# Altium footprint library Current Sensor.PcbLib: 17 footprints (part 1 of 2)
Each footprint in its own frame and in the unit in brackets; x right, y up, seen from the top. Pads: shape width x height; smd on the part's side, far side on the other; paste and mask are expansions set on the pad; w line width, h text height; cw(c..) or ccw(c..) is an arc to the next point about the centre after c.
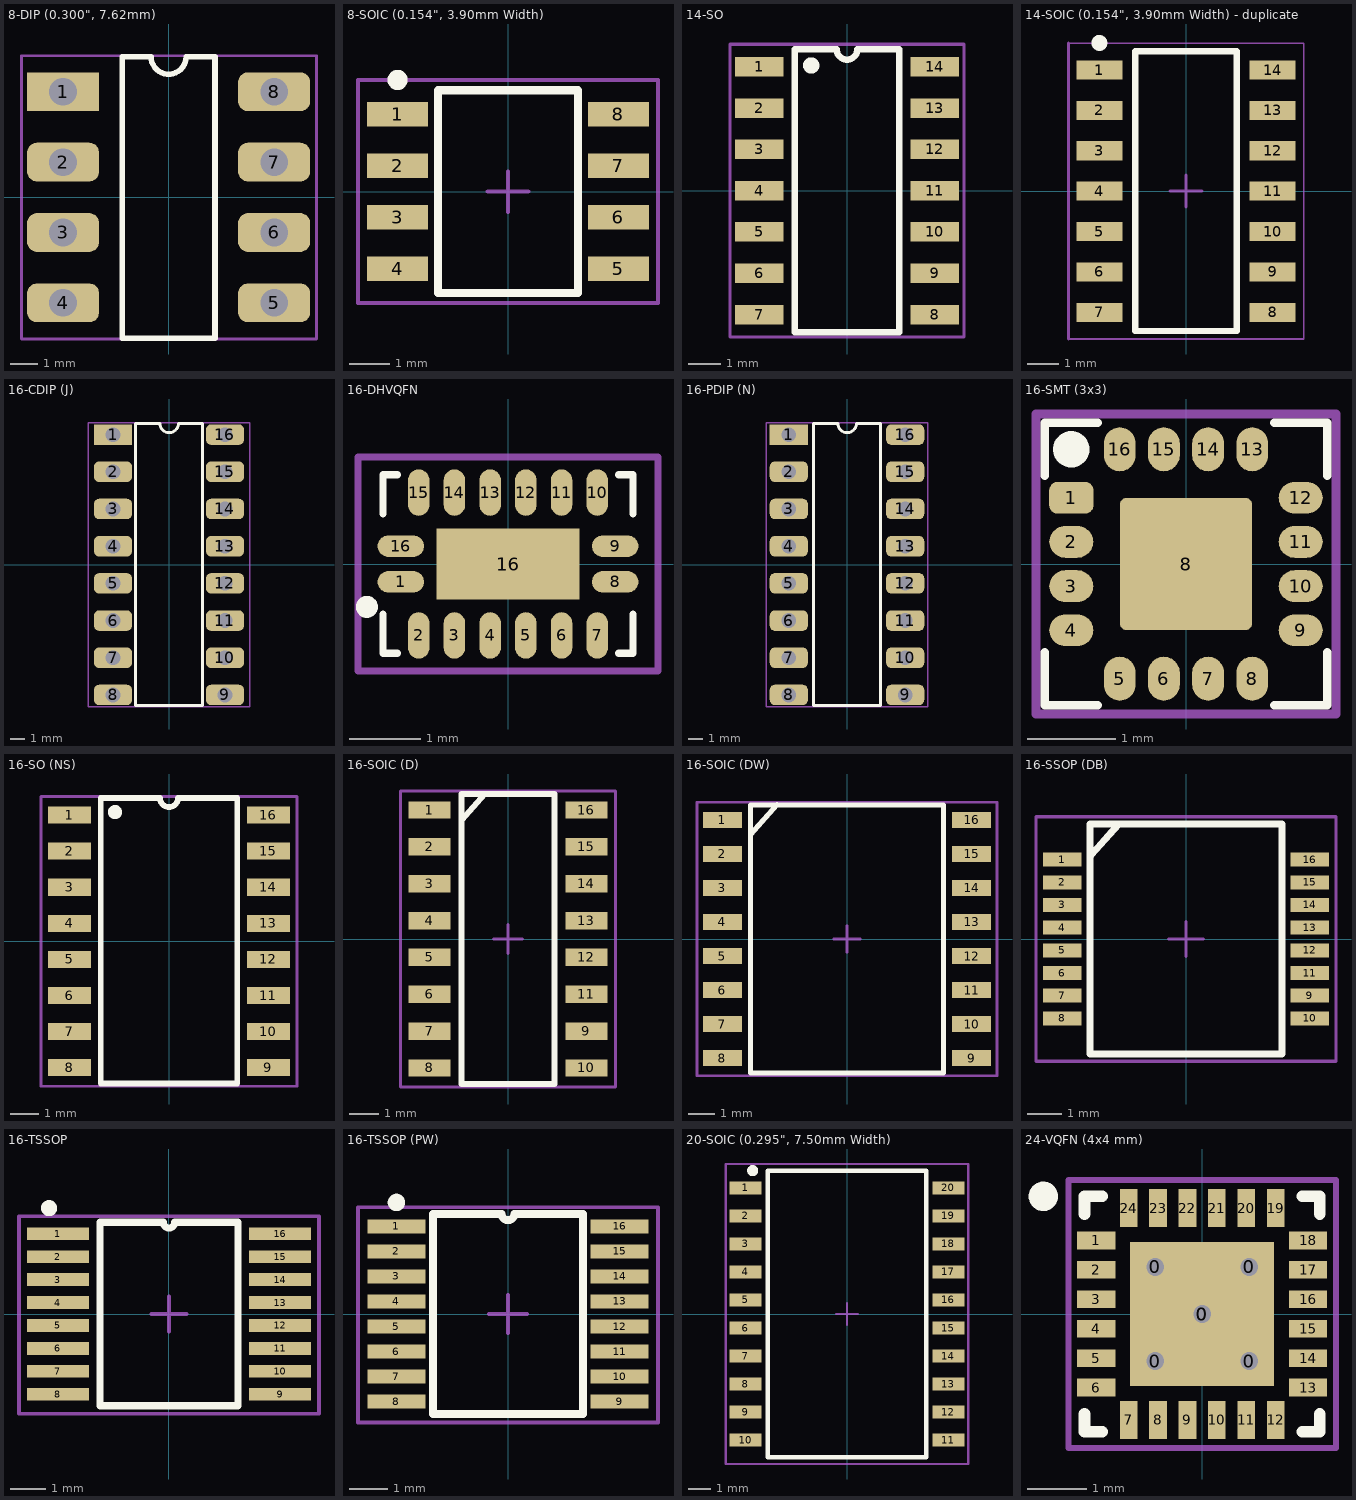
[diagram p0: the footprints below, top view; thin cyan lines are the x and y axes]

## 8-DIP (0.300", 7.62mm) [mm]
pads (8):
  rect 2.6x1.4 hole 1: 1(-3.81,3.81)
  rrect50% 2.6x1.4 hole 1: 2(-3.81,1.27) 3(-3.81,-1.27) 4(-3.81,-3.81) 5(3.81,-3.81) 6(3.81,-1.27) 7(3.81,1.27) 8(3.81,3.81)
Top Overlay:
  lines w0.2: -1.675,-5.08 -1.675,5.08 -0.635,5.08 ccw(c0,5.08) 0.635,5.08 1.675,5.08 1.675,-5.08 -1.675,-5.08
Border:
  lines w0.1: -5.31,-5.115 5.34,-5.115 5.34,5.11 -5.31,5.11 -5.31,-5.115
3D body "User Library-DIP-8P-M01.STEP": height 4.36, standoff -3, extent -3.93,-4.69 3.94,4.71

## 8-SOIC (0.154", 3.90mm Width) [mm] "SOIC, 8-Leads, Body 4,90x3,90mm, Pitch 1,27mm, IPC Medium Density"
height 1.75
pads (8):
  rect 1.5x0.6 smd: 1(-2.725,1.905) 2(-2.725,0.635) 3(-2.725,-0.635) 4(-2.725,-1.905) 5(2.725,-1.905) 6(2.725,-0.635) 7(2.725,0.635) 8(2.725,1.905)
Top Overlay:
  circle w0.25: c-2.725,2.755 r0.125
  lines w0.2: -1.725,-2.5 -1.725,2.5 1.725,2.5 1.725,-2.5 -1.725,-2.5
Border:
  lines w0.1: -0.5,0 0.5,0 ; 0,-0.5 0,0.5 ; -3.7,-2.75 -3.7,2.75 3.7,2.75 3.7,-2.75 -3.7,-2.75
3D body "CircuitWorks-SO-8.STEP": height 1.45, standoff 0, extent -2.9,-2.452 2.878,2.45

## 14-SO [mm]
pads (14):
  rect 1.5x0.6 smd: 1(-2.7,3.81) 2(-2.7,2.54) 3(-2.7,1.27) 4(-2.7,0) 5(-2.7,-1.27) 6(-2.7,-2.54) 7(-2.7,-3.81) 8(2.7,-3.81) 9(2.7,-2.54) 10(2.7,-1.27) 11(2.7,0) 12(2.7,1.27) 13(2.7,2.54) 14(2.7,3.81)
Top Overlay:
  circle w0.25: c-1.1,3.85 r0.125
  lines w0.2: -1.6,-4.345 1.6,-4.345 1.6,4.345 0.318,4.345 cw(c0,4.345) -0.318,4.345 -1.6,4.345 -1.6,-4.345
Border:
  lines w0.1: -3.6,-4.5 -3.6,4.5 -3.5,4.5 3.6,4.5 3.6,-4.5 -3.6,-4.5
3D body "CircuitWorks-SO-14.STEP": height 1.75, standoff 0, extent -3.046,-4.318 3.05,4.318

## 14-SOIC (0.154", 3.90mm Width) - duplicate [mm] "SOIC, 14-Leads, Body 8,65x3,90mm, Pitch 1,27mm, IPC Medium Density"
height 1.75
pads (14):
  rect 1.45x0.6 smd: 1(-2.725,3.81) 2(-2.725,2.54) 3(-2.725,1.27) 4(-2.725,0) 5(-2.725,-1.27) 6(-2.725,-2.54) 7(-2.725,-3.81) 8(2.725,-3.81) 9(2.725,-2.54) 10(2.725,-1.27) 11(2.725,0) 12(2.725,1.27) 13(2.725,2.54) 14(2.725,3.81)
Top Overlay:
  circle w0.25: c-2.725,4.66 r0.125
  lines w0.2: -1.6,-4.4 1.6,-4.4 1.6,4.4 -1.6,4.4 -1.6,-4.4
Border:
  lines w0.05: -3.7,-4.65 3.7,-4.65 3.7,4.65 -3.7,4.65
  lines w0.1: -3.7,-4.65 -3.7,4.65 ; -0.5,0 0.5,0 ; 0,-0.5 0,0.5
3D body "User Library-SOIC-14.STEP": height 1.75, standoff 0, extent -3,-4.375 3,4.375

## 16-CDIP (J) [mm] "J (R-CDIP-T16)"
pads (16):
  rect 2.6x1.4 hole 1: 1(-3.82,8.89)
  rrect50% 2.6x1.4 hole 1: 2(-3.82,6.35) 3(-3.82,3.81) 4(-3.82,1.27) 5(-3.82,-1.27) 6(-3.82,-3.81) 7(-3.82,-6.35) 8(-3.82,-8.89) 9(3.82,-8.89) 10(3.82,-6.35) 11(3.82,-3.81) 12(3.82,-1.27) 13(3.82,1.27) 14(3.82,3.81) 15(3.82,6.35) 16(3.82,8.89)
Top Overlay:
  lines w0.2: -2.3,-9.6 -2.3,9.66 -0.625,9.66 ccw(c0.01,9.66) 0.645,9.66 2.3,9.66 2.3,-9.6 -2.3,-9.6
Border:
  lines w0.1: -5.5,-9.7 5.5,-9.7 5.5,9.7 -5.5,9.7 -5.5,-9.7
3D body "User Library-DIP16.STEP": height 4.57, standoff -3.81, extent -3.91,-9.715 3.91,9.715

## 16-DHVQFN [mm]
pads (17):
  oval 0.65x0.3 smd: 1(-1.5,-0.25) 8(1.5,-0.25) 9(1.5,0.25) 16(-1.5,0.25)
  oval 0.3x0.65 smd: 2(-1.25,-1) 3(-0.75,-1) 4(-0.25,-1) 5(0.25,-1) 6(0.75,-1) 7(1.25,-1) 10(1.25,1) 11(0.75,1) 12(0.25,1) 13(-0.25,1) 14(-0.75,1) 15(-1.25,1)
  rect 2x1 smd: 16(0,0)
Top Overlay:
  circle w0.15: c-1.975,-0.6 r0.079
  lines w0.1: -1.75,-0.7 -1.75,-1.25 -1.55,-1.25 ; -1.75,0.7 -1.75,1.25 -1.55,1.25 ; 1.55,-1.25 1.75,-1.25 1.75,-0.7 ; 1.55,1.25 1.75,1.25 1.75,0.7
Border:
  lines w0.1: -2.1,-1.5 2.1,-1.5 2.1,1.5 -2.1,1.5 -2.1,-1.5
3D body "16-DHVQFN.stp": height 1, standoff 0, extent -1.8,-1.3 1.8,1.3

## 16-PDIP (N) [mm] "N (R-PDIP-T16)"
pads (16):
  rect 2.6x1.4 hole 1: 1(-3.975,8.89)
  rrect50% 2.6x1.4 hole 1: 2(-3.975,6.35) 3(-3.975,3.81) 4(-3.975,1.27) 5(-3.975,-1.27) 6(-3.975,-3.81) 7(-3.975,-6.35) 8(-3.975,-8.89) 9(3.975,-8.89) 10(3.975,-6.35) 11(3.975,-3.81) 12(3.975,-1.27) 13(3.975,1.27) 14(3.975,3.81) 15(3.975,6.35) 16(3.975,8.89)
Top Overlay:
  lines w0.2: -2.3,-9.6 2.3,-9.6 2.3,9.66 0.645,9.66 cw(c0.01,9.66) -0.625,9.66 -2.3,9.66 -2.3,-9.6
Border:
  lines w0.1: -5.5,-9.7 -5.5,9.7 5.5,9.7 5.5,-9.7 -5.5,-9.7
3D body "User Library-DIP16.STEP": height 4.57, standoff -3.81, extent -3.91,-9.715 3.91,9.715

## 16-SMT (3x3) [mm]
pads (17):
  rrect50% 0.5x0.36 smd: 1(-1.3,0.75)
  oval 0.5x0.36 smd: 2(-1.3,0.25) 3(-1.3,-0.25) 4(-1.3,-0.75) 9(1.3,-0.75) 10(1.3,-0.25) 11(1.3,0.25) 12(1.3,0.75)
  oval 0.36x0.5 smd: 5(-0.75,-1.3) 6(-0.25,-1.3) 7(0.25,-1.3) 8(0.75,-1.3) 13(0.75,1.3) 14(0.25,1.3) 15(-0.25,1.3) 16(-0.75,1.3)
  rrect10% 1.5x1.5 smd: 8(0,0)
Top Overlay:
  circle w0.254: c-1.3,1.3 r0.079
  lines w0.1: -1.6,-1 -1.6,-1.6 -1,-1.6 ; -1.6,1 -1.6,1.6 -1,1.6 ; 1,-1.6 1.6,-1.6 1.6,-1 ; 1,1.6 1.6,1.6 1.6,1
Border:
  lines w0.1: -1.7,-1.7 -1.7,1.7 1.7,1.7 1.7,-1.7 -1.7,-1.7
3D body "Компаратор HMC974LC3C.stp": height 0.9, standoff 0, extent -1.525,-1.525 1.525,1.525

## 16-SO (NS) [mm] "NS (R-PDSO-G16)"
pads (16):
  rect 1.5x0.6 smd: 1(-3.5,4.445) 2(-3.5,3.175) 3(-3.5,1.905) 4(-3.5,0.635) 5(-3.5,-0.635) 6(-3.5,-1.905) 7(-3.5,-3.175) 8(-3.5,-4.445) 9(3.5,-4.445) 10(3.5,-3.175) 11(3.5,-1.905) 12(3.5,-0.635) 13(3.5,0.635) 14(3.5,1.905) 15(3.5,3.175) 16(3.5,4.445)
Top Overlay:
  circle w0.25: c-1.9,4.55 r0.125
  lines w0.2: -2.4,-5 2.4,-5 2.4,5.045 0.318,5.045 cw(c0,5.045) -0.318,5.045 -2.4,5.045 -2.4,-5
Border:
  lines w0.1: -4.5,-5.1 -4.5,5.1 -3.6,5.1 4.5,5.1 4.5,-5.1 -4.5,-5.1
3D body "User Library-SOP16_208mil (5_3mm).STEP": height 2, standoff 0, extent -3.96,-5.1 3.96,5.1

## 16-SOIC (D) [mm] "D (R-PDSO-G16)"
height 1.75
pads (16):
  rect 1.45x0.6 smd: 1(-2.7,4.445) 2(-2.7,3.175) 3(-2.7,1.905) 4(-2.7,0.635) 5(-2.7,-0.635) 6(-2.7,-1.905) 7(-2.7,-3.175) 8(-2.7,-4.445) 9(2.7,-3.175) 10(2.7,-4.445) 11(2.7,-1.905) 12(2.7,-0.635) 13(2.7,0.635) 14(2.7,1.905) 15(2.7,3.175) 16(2.7,4.445)
Top Overlay:
  lines w0.2: -1.6,4.1 -0.8,5 ; -1.6,-5 1.6,-5 1.6,5 -1.6,5 -1.6,-5
Border:
  lines w0.1: -0.5,0 0.5,0 ; 0,-0.5 0,0.5 ; -3.7,-5.1 3.7,-5.1 3.7,5.1 -3.7,5.1 -3.7,-5.1
3D body "User Library-SOIC-16-3.sldprt": height 1.7, standoff 0, extent -3.099,-4.948 3.099,4.958

## 16-SOIC (DW) [mm] "DW0016A"
height 1.75
pads (16):
  rect 1.45x0.6 smd: 1(-4.65,4.445) 2(-4.65,3.175) 3(-4.65,1.905) 4(-4.65,0.635) 5(-4.65,-0.635) 6(-4.65,-1.905) 7(-4.65,-3.175) 8(-4.65,-4.445) 9(4.65,-4.445) 10(4.65,-3.175) 11(4.65,-1.905) 12(4.65,-0.635) 13(4.65,0.635) 14(4.65,1.905) 15(4.65,3.175) 16(4.65,4.445)
Top Overlay:
  lines w0.2: -3.6,3.9 -2.612,5.011 ; -3.6,-5 -3.6,5 3.6,5 3.6,-5 -3.6,-5
Border:
  lines w0.1: -0.5,0 0.5,0 ; 0,-0.5 0,0.5 ; -5.6,-5.1 -5.6,5.1 5.6,5.1 5.6,-5.1 -5.6,-5.1
3D body "User Library-SOIC16_Wide_JEDEC_MS-013AA.STEP": height 2.72, standoff 0.07, extent -5.315,-5.25 5.315,5.25

## 16-SSOP (DB) [mm] "DB (R-PDSO-G16)"
height 1.75
pads (16):
  rect 1.1x0.4 smd: 1(-3.55,2.275) 2(-3.55,1.625) 3(-3.55,0.975) 4(-3.55,0.325) 5(-3.55,-0.325) 6(-3.55,-0.975) 7(-3.55,-1.625) 8(-3.55,-2.275) 9(3.55,-1.625) 10(3.55,-2.275) 11(3.55,-0.975) 12(3.55,-0.325) 13(3.55,0.325) 14(3.55,0.975) 15(3.55,1.625) 16(3.55,2.275)
Top Overlay:
  lines w0.2: -2.725,2.4 -1.925,3.3 ; -2.75,-3.3 -2.75,3.3 2.75,3.3 2.75,-3.3 -2.75,-3.3
Border:
  lines w0.1: -0.5,0 0.5,0 ; 0,-0.5 0,0.5 ; -4.3,-3.5 -4.3,3.5 4.3,3.5 4.3,-3.5 -4.3,-3.5
3D body "User Library-SSOP-16.STEP": height 1.9, standoff 0, extent -3.9,-3.1 3.9,3.1

## 16-TSSOP [mm]
pads (16):
  rect 1.76x0.36 smd: 1(-3.15,2.275) 2(-3.15,1.625) 3(-3.15,0.975) 4(-3.15,0.325) 5(-3.15,-0.325) 6(-3.15,-0.975) 7(-3.15,-1.625) 8(-3.15,-2.275) 9(3.15,-2.275) 10(3.15,-1.625) 11(3.15,-0.975) 12(3.15,-0.325) 13(3.15,0.325) 14(3.15,0.975) 15(3.15,1.625) 16(3.15,2.275)
Top Overlay:
  circle w0.254: c-3.4,3 r0.1
  lines w0.2: -1.95,-2.6 1.95,-2.6 1.95,2.6 0.162,2.6 cw(c0,2.6) -0.162,2.6 -1.95,2.6 -1.95,-2.6
Border:
  lines w0.1: -0.5,0 0.5,0 ; 0,-0.5 0,0.5 ; -4.25,-2.825 4.25,-2.825 4.25,2.775 -4.25,2.775 -4.25,-2.825
3D body "User Library-TSSOP-16-1.STEP": height 1.1, standoff 0, extent -3.2,-2.5 3.2,2.5

## 16-TSSOP (PW) [mm] "PW0016A"
pads (16):
  rect 1.5x0.36 smd: 1(-2.9,2.275) 2(-2.9,1.625) 3(-2.9,0.975) 4(-2.9,0.325) 5(-2.9,-0.325) 6(-2.9,-0.975) 7(-2.9,-1.625) 8(-2.9,-2.275) 9(2.9,-2.275) 10(2.9,-1.625) 11(2.9,-0.975) 12(2.9,-0.325) 13(2.9,0.325) 14(2.9,0.975) 15(2.9,1.625) 16(2.9,2.275)
Top Overlay:
  circle w0.254: c-2.9,2.9 r0.1
  lines w0.2: -1.95,-2.6 -1.95,2.6 -0.162,2.6 ccw(c0,2.6) 0.162,2.6 1.95,2.6 1.95,-2.6 -1.95,-2.6
Border:
  lines w0.1: -0.5,0 0.5,0 ; 0,-0.5 0,0.5 ; -3.9,-2.825 3.9,-2.825 3.9,2.775 -3.9,2.775 -3.9,-2.825
3D body "User Library-TSSOP-16-1.STEP": height 1.1, standoff 0, extent -3.2,-2.5 3.2,2.5

## 20-SOIC (0.295", 7.50mm Width) [mm] "20-SOIC (0.295\", 7.50mm Width)"
height 1.75
pads (20):
  rect 1.45x0.6 smd: 1(-4.6,5.715) 2(-4.6,4.445) 3(-4.6,3.175) 4(-4.6,1.905) 5(-4.6,0.635) 6(-4.6,-0.635) 7(-4.6,-1.905) 8(-4.6,-3.175) 9(-4.6,-4.445) 10(-4.6,-5.715) 11(4.6,-5.715) 12(4.6,-4.445) 13(4.6,-3.175) 14(4.6,-1.905) 15(4.6,-0.635) 16(4.6,0.635) 17(4.6,1.905) 18(4.6,3.175) 19(4.6,4.445) 20(4.6,5.715)
Top Overlay:
  circle w0.25: c-4.275,6.5 r0.125
  lines w0.2: -3.6,-6.5 -3.6,6.5 3.6,6.5 3.6,-6.5 -3.6,-6.5
Border:
  lines w0.1: -0.5,0 0.5,0 ; 0,-0.5 0,0.5 ; -5.5,-6.8 -5.5,6.8 5.5,6.8 5.5,-6.8 -5.5,-6.8
3D body "User Library-SO-20 (Wide).STEP": height 2.7, standoff 0, extent -5.15,-6.4 5.15,6.4

## 24-VQFN (4x4 mm) [mm]
pads (30):
  round 0.7 hole 0.3 paste+0: 0(-0.8,-0.8) 0(-0.8,0.8) 0(0,0) 0(0.8,-0.8) 0(0.8,0.8)
  rect 2.45x2.45 smd: 0(0,0)
  rect 0.65x0.3 smd: 1(-1.8,1.25) 2(-1.8,0.75) 3(-1.8,0.25) 4(-1.8,-0.25) 5(-1.8,-0.75) 6(-1.8,-1.25) 13(1.8,-1.25) 14(1.8,-0.75) 15(1.8,-0.25) 16(1.8,0.25) 17(1.8,0.75) 18(1.8,1.25)
  rect 0.3x0.65 smd: 7(-1.25,-1.8) 8(-0.75,-1.8) 9(-0.25,-1.8) 10(0.25,-1.8) 11(0.75,-1.8) 12(1.25,-1.8) 19(1.25,1.8) 20(0.75,1.8) 21(0.25,1.8) 22(-0.25,1.8) 23(-0.75,1.8) 24(-1.25,1.8)
Top Overlay:
  circle w0.25: c-2.7,2 r0.125
  lines w0.2: -2,-1.7 -2,-2 -1.7,-2 ; -2,1.7 -2,2 -1.7,2 ; 1.7,-2 2,-2 2,-1.7 ; 1.7,2 2,2 2,1.7
Border:
  lines w0.1: -0.5,0 0.5,0 ; 0,-0.5 0,0.5 ; -2.275,-2.275 2.275,-2.275 2.275,2.275 -2.275,2.275 -2.275,-2.275
3D body "User Library-QFN24.STEP": height 0.9, standoff 0, extent -2.005,-2.005 2.005,2.005